# Altium schematic symbol library Fairchild NMOS - DPAK.SchLib: 1 symbol
Pins are listed as number, name and electrical type; pins without a type are passive.

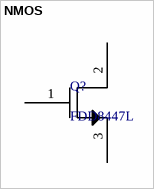
[diagram p0: symbol NMOS]

## NMOS
designator Q?, comment FDD8447L
footprint FDD8447L
pins: 1, 2, 3